# Altium schematic symbol library Line.SchLib: 8 symbols
Pins are listed as number, name and electrical type; pins without a type are passive.

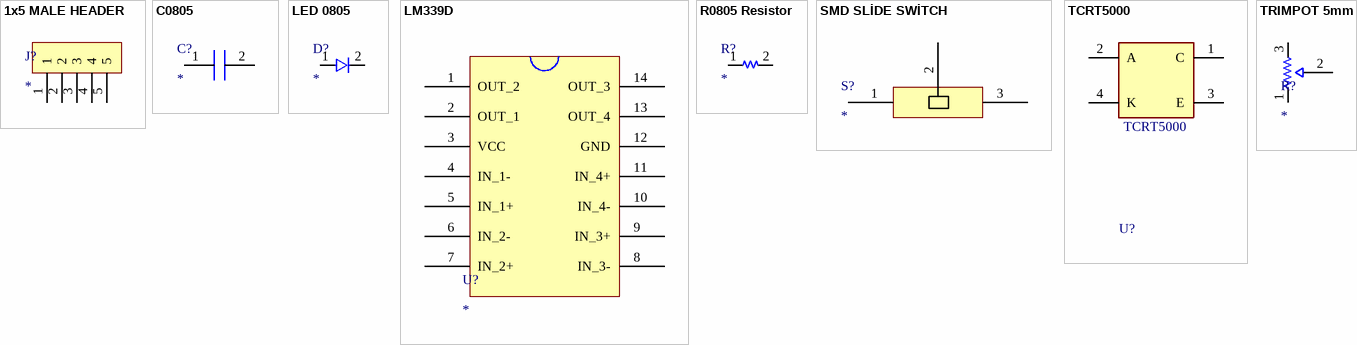
[diagram p0: symbols 1x5 MALE HEADER to TRIMPOT 5mm]

## 1x5 MALE HEADER
designator J?
footprint 1x5 MALE HEADER
pins: 1, 2, 3, 4, 5

## C0805
designator C?
footprint C0805 (C0805 CAPACITOR)
pins: 1, 2

## LED 0805
designator D?
footprint LED 0805
pins: 1, 2

## LM339D
designator U?
LM33D Voltage Comparator
footprint LM339D (LM339 Comparator)
pins: 1 OUT_2, 2 OUT_1, 3 VCC, 4 IN_1-, 5 IN_1+, 6 IN_2-, 7 IN_2+, 8 IN_3-, 9 IN_3+, 10 IN_4-, 11 IN_4+, 12 GND, 13 OUT_4, 14 OUT_3

## R0805 Resistor
designator R?
footprint R0805 Resistor
pins: 1, 2

## SMD SLİDE SWİTCH
designator S?
footprint SMD Slide Switch (SMD Slide Switch right angle)
pins: 1 VSS, 2 VSS, 3 VSS

## TCRT5000
designator U?  Part Number: TCRT5000
TCRT5000 Kızıl Ötesi Sensör; Manufacturer: Vishay; Current - DC Forward: 60mA; Current - Collector: 100mA; Voltage - Collector Emitter Breakdown: 70V; helpURL: https://upverter.com/upn/revision/6a006743d406fff5/; ComponentLink2Description: Datasheet; Temperature: -25°C to +85°C; Package: PTH_SENSOR_10MM2_5MM8; Supplier 2: Mouser; Price: 0.712554698297; Supplier 1: Digi-Key; ComponentLink1URL: https://upverter.com/upn/revision/6a006743d406fff5/; Supplier Part Number 2: 782-TCRT5000; Supplier Part Number 1: 751-1033-5-ND; ComponentLink1Description: Upverter; ComponentLink2URL: http://www.vishay.com/doc?83760; RoHS: TRUE; Mouser Part Number: 782-TCRT5000; Temperature Range High: +85°C; Digikey Description: IC SENSOR OPTO TRANS 15MM REFL PCB; Digikey Part Number: 751-1033-5-ND; Lead Free: yes; Temperature Range Low: -25°C
footprint TCRT5000 (TCRT5000 Kızıl Ötesi Sensör)
pins: 1 C, 2 A, 3 E, 4 K

## TRIMPOT 5mm
designator R?
TS53 TRIMPOT SMD 5mm
footprint TRIMPOT 5mm (5mm Square Trimpot)
pins: 1, 2 3, 3 2